# EAGLE library part SI1416EDH-T1-GE3 (library SI1416EDH-T1-GE3)
Si1416EDH-T1-GE3 N-Channel MOSFET, 3.9 A, 30 V, 6-Pin SOT-363 Vishay Source: Datasheet <http://www.vishay.com/docs/67580/si1416ed.pdf>
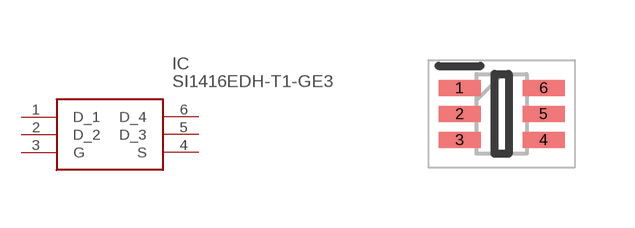
[diagram p0: symbol with the pads of SOT65P210X110-6N; footprint SOT65P210X110-6N]

Designator prefix IC

## SI1416EDH-T1-GE3 (Description: Si1416EDH-T1-GE3 N-Channel MOSFET, 3.9 A, 30 V, 6-Pin SOT-363 Vishay; Height: 1.1mm; Manufacturer_Name: Vishay; Manufacturer_Part_Number: SI1416EDH-T1-GE3; Mouser_Part_Number: 78-SI1416EDH-T1-GE3; Mouser_Price-Stock: https://www.mouser.co.uk/ProductDetail/Vishay-Semiconductors/SI1416EDH-T1-GE3?qs=pNKBmB2EQRiQP6xZUEPceg%3D%3D)  [SOT65P210X110-6N]
1  D_1
2  D_2
3  G
4  S
5  D_3
6  D_4

## Footprint SOT65P210X110-6N (pad centres in mm)
SI1416EDH-T1-GE3-1
smd 1.05 x 0.4: 1 -1.05,0.65; 2 -1.05,0; 3 -1.05,-0.65; 4 1.05,-0.65; 5 1.05,0; 6 1.05,0.65